# Altium schematic symbol library Transformer.SchLib: 3 symbols
Pins are listed as number, name and electrical type; pins without a type are passive.

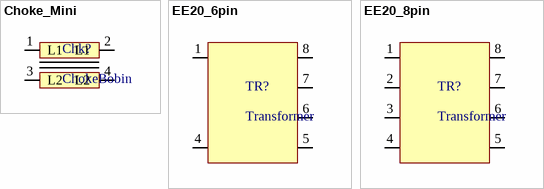
[diagram p0: symbols Choke_Mini to EE20_8pin]

## Choke_Mini
designator Chk?, comment ChokeBobin
Category: Transformer
footprint CHOKE_MINI
pins: 1 L1, 2 L1, 3 L2, 4 L2

## EE20_6pin
designator TR?, comment Transformer
Category: Transformer
footprint EE20 6 pin
pins: 1, 4, 5, 6, 7, 8

## EE20_8pin
designator TR?, comment Transformer
Category: Transformer
footprint EE20 8 pin
pins: 1, 2, 3, 4, 5, 6, 7, 8